# Altium integrated library Vishay Siliconix MOSFETs.IntLib: 1 symbol
Pins are listed as number, name and electrical type; pins without a type are passive.

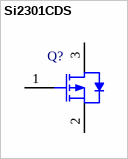
[diagram p0: symbol Si2301CDS]

## Si2301CDS
designator Q?
P-Channel 20V 3.1A (Tc) 860mW (Ta), 1.6W (Tc) Surface Mount SOT-23-3 (TO-236); Manufacturer: Vishay Siliconix; PartNumber: Si2301CDS; Package: SOT-23-3 (TO-236); PackageDescription: Small Outline Transistor 3 Leads; Supplier 1: Digi-Key; Supplier Part Number 1: SI2301CDS-T1-GE3TR-ND
pins: 1 G "gate", 2 S "source", 3 D "drain"